# EAGLE library part VNC2 (library jasons_stuff)
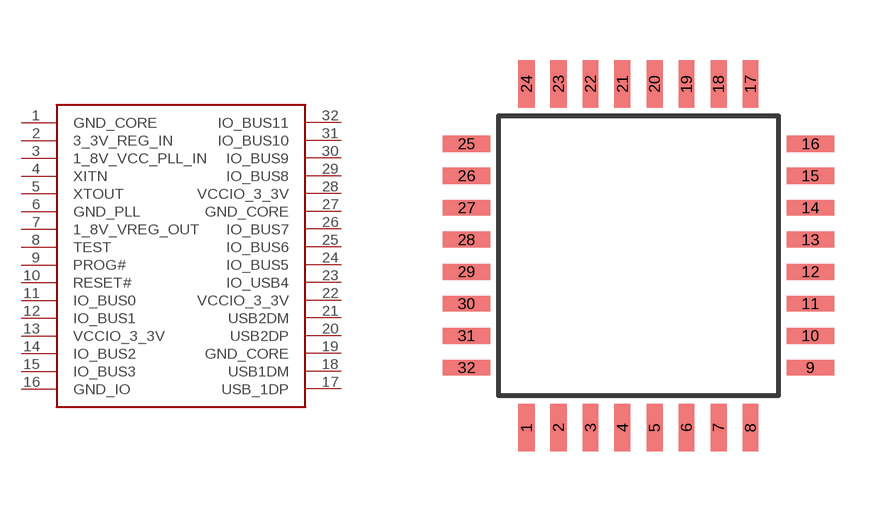
[diagram p7: symbol with the pads of LQFP32; footprint LQFP32]

Designator prefix -

## VNC2  [LQFP32]
1  GND_CORE  pwr
2  3_3V_REG_IN  pwr
3  1_8V_VCC_PLL_IN  pwr
4  XITN
5  XTOUT
6  GND_PLL  pwr
7  1_8V_VREG_OUT  pwr
8  TEST
9  PROG#
10  RESET#
11  IO_BUS0
12  IO_BUS1
13  VCCIO_3_3V  pwr
14  IO_BUS2
15  IO_BUS3
16  GND_IO  pwr
17  USB_1DP
18  USB1DM
19  GND_CORE  pwr
20  USB2DP
21  USB2DM
22  VCCIO_3_3V  pwr
23  IO_USB4
24  IO_BUS5
25  IO_BUS6
26  IO_BUS7
27  GND_CORE  pwr
28  VCCIO_3_3V  pwr
29  IO_BUS8
30  IO_BUS9
31  IO_BUS10
32  IO_BUS11

## Footprint LQFP32 (pad centres in mm)
LQFP-32 package 7x7 mm case, 0.8 mm lead pitch
smd 0.4 x 1.2: 1 -2.8,-4.3; 2 -2,-4.3; 3 -1.2,-4.3; 4 -0.4,-4.3; 5 0.4,-4.3; 6 1.2,-4.3; 7 2,-4.3; 8 2.8,-4.3; 17 2.8,4.3; 18 2,4.3; 19 1.2,4.3; 20 0.4,4.3; 21 -0.4,4.3; 22 -1.2,4.3; 23 -2,4.3; 24 -2.8,4.3
smd 1.2 x 0.4: 9 4.3,-2.8; 10 4.3,-2; 11 4.3,-1.2; 12 4.3,-0.4; 13 4.3,0.4; 14 4.3,1.2; 15 4.3,2; 16 4.3,2.8; 25 -4.3,2.8; 26 -4.3,2; 27 -4.3,1.2; 28 -4.3,0.4; 29 -4.3,-0.4; 30 -4.3,-1.2; 31 -4.3,-2; 32 -4.3,-2.8